# Altium schematic symbol library SCH - MCU - STM32 - ST MICROELECTRONICS STM32MP131FAEX LFBGA289.SchLib: 1 symbol
Pins are listed as number, name and electrical type; pins without a type are passive.

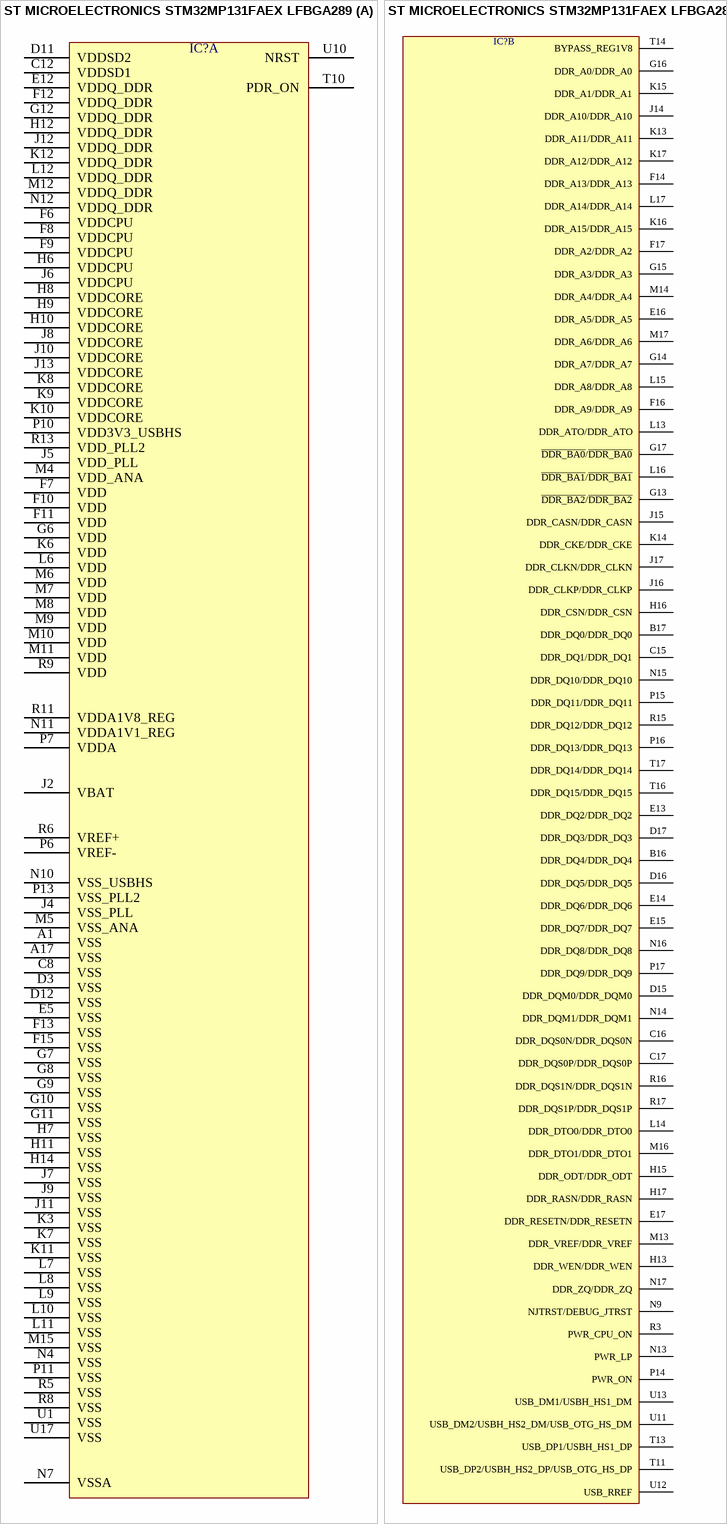
[diagram p0: symbol ST MICROELECTRONICS STM32MP131FAEX LFBGA289]

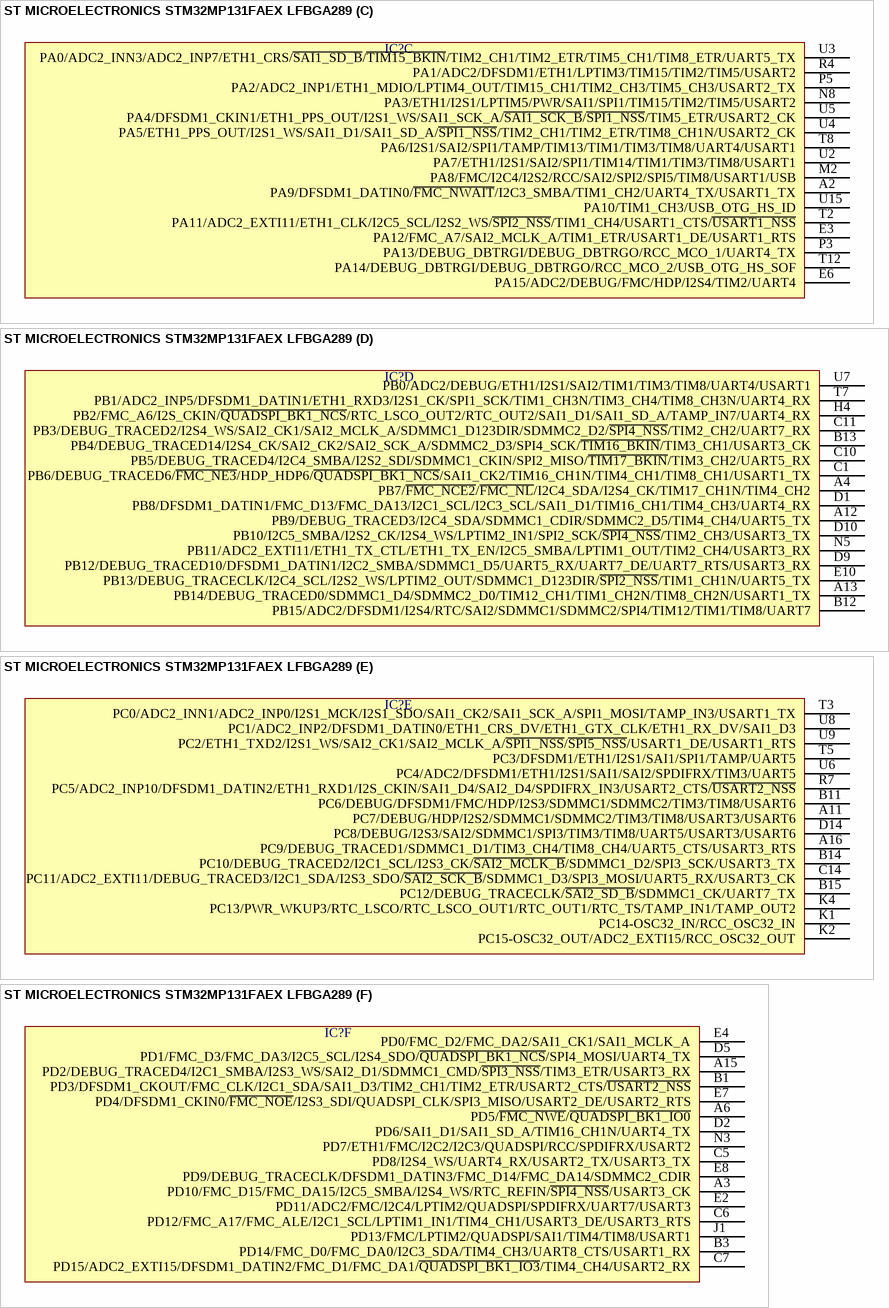
[diagram p1: symbol ST MICROELECTRONICS STM32MP131FAEX LFBGA289]

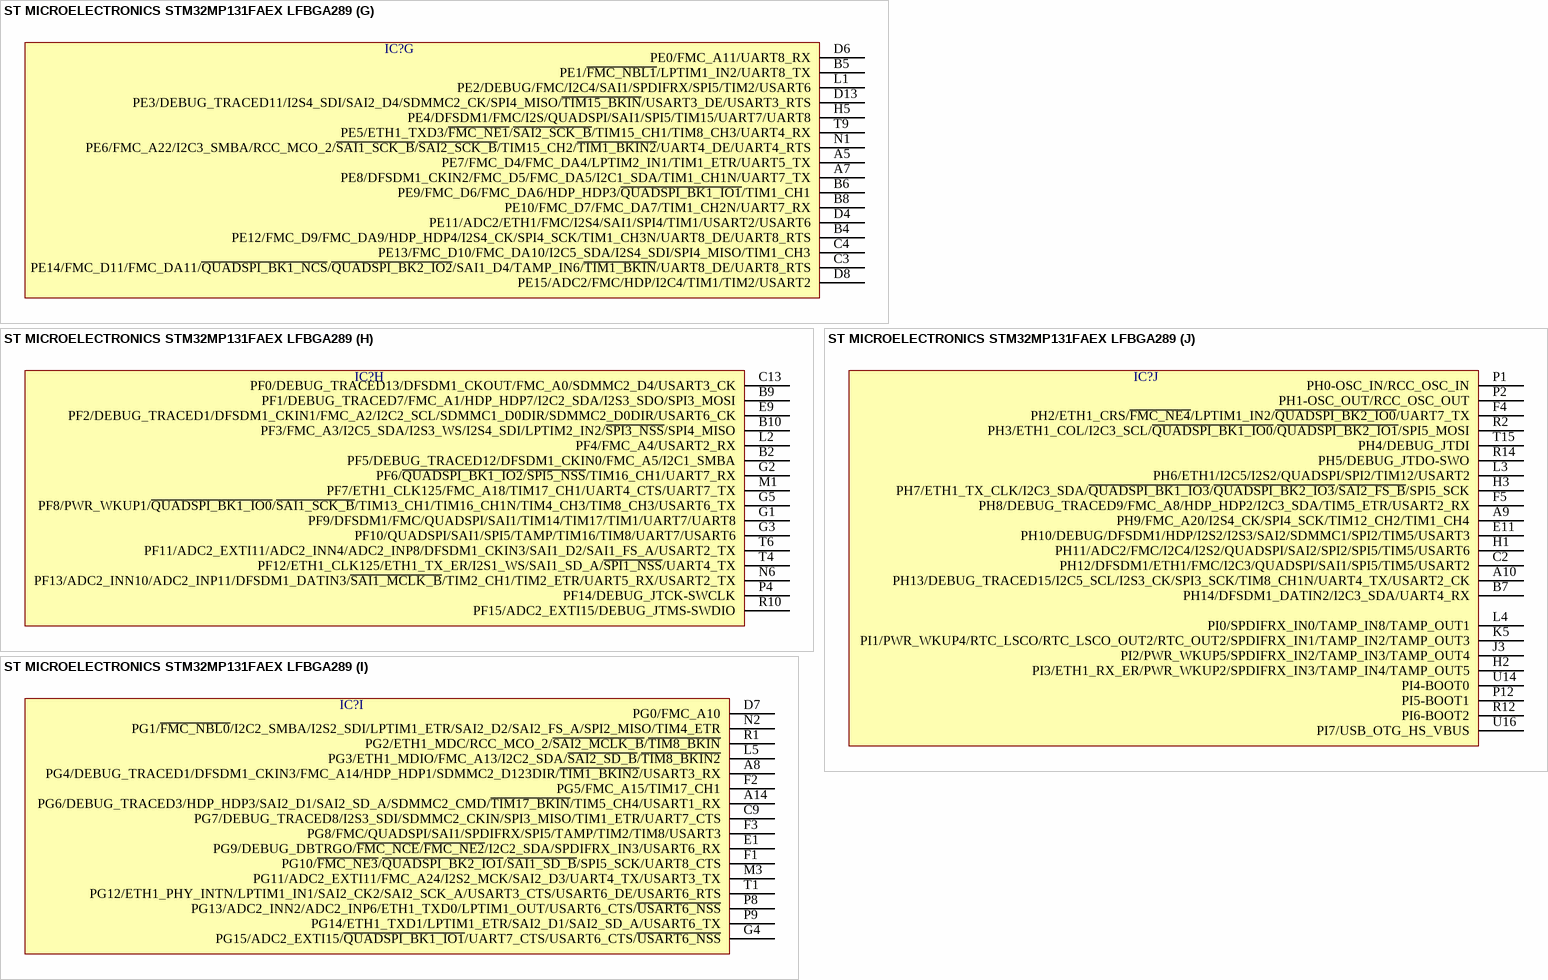
[diagram p2: symbol ST MICROELECTRONICS STM32MP131FAEX LFBGA289]

## ST MICROELECTRONICS STM32MP131FAEX LFBGA289
designator IC?  (value not drawn)
part A pins: A1 VSS, A17 VSS, C8 VSS, C12 VDDSD1, D3 VSS, D11 VDDSD2, D12 VSS, E5 VSS, E12 VDDQ_DDR, F6 VDDCPU, F7 VDD, F8 VDDCPU, F9 VDDCPU, F10 VDD, F11 VDD, F12 VDDQ_DDR, F13 VSS, F15 VSS, G6 VDD, G7 VSS, G8 VSS, G9 VSS, G10 VSS, G11 VSS, G12 VDDQ_DDR, H6 VDDCPU, H7 VSS, H8 VDDCORE, H9 VDDCORE, H10 VDDCORE, H11 VSS, H12 VDDQ_DDR, H14 VSS, J2 VBAT, J4 VSS_PLL, J5 VDD_PLL, J6 VDDCPU, J7 VSS, J8 VDDCORE, J9 VSS, J10 VDDCORE, J11 VSS, J12 VDDQ_DDR, J13 VDDCORE, K3 VSS, K6 VDD, K7 VSS, K8 VDDCORE, K9 VDDCORE, K10 VDDCORE, K11 VSS, K12 VDDQ_DDR, L6 VDD, L7 VSS, L8 VSS, L9 VSS, L10 VSS, L11 VSS, L12 VDDQ_DDR, M4 VDD_ANA, M5 VSS_ANA, M6 VDD, M7 VDD, M8 VDD, M9 VDD, M10 VDD, M11 VDD, M12 VDDQ_DDR, M15 VSS, N4 VSS, N7 VSSA, N10 VSS_USBHS, N11 VDDA1V1_REG, N12 VDDQ_DDR, P6 VREF-, P7 VDDA, P10 VDD3V3_USBHS, P11 VSS, P13 VSS_PLL2, R5 VSS, R6 VREF+, R8 VSS, R9 VDD, R11 VDDA1V8_REG, R13 VDD_PLL2, T10 PDR_ON, U1 VSS, U10 NRST, U17 VSS
part B pins: B16 DDR_DQ4/DDR_DQ4, B17 DDR_DQ0/DDR_DQ0, C15 DDR_DQ1/DDR_DQ1, C16 DDR_DQS0N/DDR_DQS0N, C17 DDR_DQS0P/DDR_DQS0P, D15 DDR_DQM0/DDR_DQM0, D16 DDR_DQ5/DDR_DQ5, D17 DDR_DQ3/DDR_DQ3, E13 DDR_DQ2/DDR_DQ2, E14 DDR_DQ6/DDR_DQ6, E15 DDR_DQ7/DDR_DQ7, E16 DDR_A5/DDR_A5, E17 DDR_RESETN/DDR_RESETN, F14 DDR_A13/DDR_A13, F16 DDR_A9/DDR_A9, F17 DDR_A2/DDR_A2, G13 ~{DDR_BA2}/~{DDR_BA2}, G14 DDR_A7/DDR_A7, G15 DDR_A3/DDR_A3, G16 DDR_A0/DDR_A0, G17 ~{DDR_BA0}/~{DDR_BA0}, H13 DDR_WEN/DDR_WEN, H15 DDR_ODT/DDR_ODT, H16 DDR_CSN/DDR_CSN, H17 DDR_RASN/DDR_RASN, J14 DDR_A10/DDR_A10, J15 DDR_CASN/DDR_CASN, J16 DDR_CLKP/DDR_CLKP, J17 DDR_CLKN/DDR_CLKN, K13 DDR_A11/DDR_A11, K14 DDR_CKE/DDR_CKE, K15 DDR_A1/DDR_A1, K16 DDR_A15/DDR_A15, K17 DDR_A12/DDR_A12, L13 DDR_ATO/DDR_ATO, L14 DDR_DTO0/DDR_DTO0, L15 DDR_A8/DDR_A8, L16 ~{DDR_BA1}/~{DDR_BA1}, L17 DDR_A14/DDR_A14, M13 DDR_VREF/DDR_VREF, M14 DDR_A4/DDR_A4, M16 DDR_DTO1/DDR_DTO1, M17 DDR_A6/DDR_A6, N9 NJTRST/DEBUG_JTRST, N13 PWR_LP, N14 DDR_DQM1/DDR_DQM1, N15 DDR_DQ10/DDR_DQ10, N16 DDR_DQ8/DDR_DQ8, N17 DDR_ZQ/DDR_ZQ, P14 PWR_ON, P15 DDR_DQ11/DDR_DQ11, P16 DDR_DQ13/DDR_DQ13, P17 DDR_DQ9/DDR_DQ9, R3 PWR_CPU_ON, R15 DDR_DQ12/DDR_DQ12, R16 DDR_DQS1N/DDR_DQS1N, R17 DDR_DQS1P/DDR_DQS1P, T11 USB_DP2/USBH_HS2_DP/USB_OTG_HS_DP, T13 USB_DP1/USBH_HS1_DP, T14 BYPASS_REG1V8, T16 DDR_DQ15/DDR_DQ15, T17 DDR_DQ14/DDR_DQ14, U11 USB_DM2/USBH_HS2_DM/USB_OTG_HS_DM, U12 USB_RREF, U13 USB_DM1/USBH_HS1_DM
part C pins: A2 PA9/DFSDM1_DATIN0/~{FMC_NWAIT}/I2C3_SMBA/TIM1_CH2/UART4_TX/USART1_TX, E3 PA12/FMC_A7/SAI2_MCLK_A/TIM1_ETR/USART1_DE/USART1_RTS, E6 PA15/ADC2/DEBUG/FMC/HDP/I2S4/TIM2/UART4, M2 PA8/FMC/I2C4/I2S2/RCC/SAI2/SPI2/SPI5/TIM8/USART1/USB, N8 PA3/ETH1/I2S1/LPTIM5/PWR/SAI1/SPI1/TIM15/TIM2/TIM5/USART2, P3 PA13/DEBUG_DBTRGI/DEBUG_DBTRGO/RCC_MCO_1/UART4_TX, P5 PA2/ADC2_INP1/ETH1_MDIO/LPTIM4_OUT/TIM15_CH1/TIM2_CH3/TIM5_CH3/USART2_TX, R4 PA1/ADC2/DFSDM1/ETH1/LPTIM3/TIM15/TIM2/TIM5/USART2, T2 PA11/ADC2_EXTI11/ETH1_CLK/I2C5_SCL/I2S2_WS/~{SPI2_NSS}/TIM1_CH4/USART1_CTS/~{USART1_NSS}, T8 PA6/I2S1/SAI2/SPI1/TAMP/TIM13/TIM1/TIM3/TIM8/UART4/USART1, T12 PA14/DEBUG_DBTRGI/DEBUG_DBTRGO/RCC_MCO_2/USB_OTG_HS_SOF, U2 PA7/ETH1/I2S1/SAI2/SPI1/TIM14/TIM1/TIM3/TIM8/USART1, U3 PA0/ADC2_INN3/ADC2_INP7/ETH1_CRS/~{SAI1_SD_B}/~{TIM15_BKIN}/TIM2_CH1/TIM2_ETR/TIM5_CH1/TIM8_ETR/UART5_TX, U4 PA5/ETH1_PPS_OUT/I2S1_WS/SAI1_D1/SAI1_SD_A/~{SPI1_NSS}/TIM2_CH1/TIM2_ETR/TIM8_CH1N/USART2_CK, U5 PA4/DFSDM1_CKIN1/ETH1_PPS_OUT/I2S1_WS/SAI1_SCK_A/~{SAI1_SCK_B}/~{SPI1_NSS}/TIM5_ETR/USART2_CK, U15 PA10/TIM1_CH3/USB_OTG_HS_ID
part D pins: A4 PB7/~{FMC_NCE2}/~{FMC_NL}/I2C4_SDA/I2S4_CK/TIM17_CH1N/TIM4_CH2, A12 PB9/DEBUG_TRACED3/I2C4_SDA/SDMMC1_CDIR/SDMMC2_D5/TIM4_CH4/UART5_TX, A13 PB14/DEBUG_TRACED0/SDMMC1_D4/SDMMC2_D0/TIM12_CH1/TIM1_CH2N/TIM8_CH2N/USART1_TX, B12 PB15/ADC2/DFSDM1/I2S4/RTC/SAI2/SDMMC1/SDMMC2/SPI4/TIM12/TIM1/TIM8/UART7, B13 PB4/DEBUG_TRACED14/I2S4_CK/SAI2_CK2/SAI2_SCK_A/SDMMC2_D3/SPI4_SCK/~{TIM16_BKIN}/TIM3_CH1/USART3_CK, C1 PB6/DEBUG_TRACED6/~{FMC_NE3}/HDP_HDP6/~{QUADSPI_BK1_NCS}/SAI1_CK2/TIM16_CH1N/TIM4_CH1/TIM8_CH1/USART1_TX, C10 PB5/DEBUG_TRACED4/I2C4_SMBA/I2S2_SDI/SDMMC1_CKIN/SPI2_MISO/~{TIM17_BKIN}/TIM3_CH2/UART5_RX, C11 PB3/DEBUG_TRACED2/I2S4_WS/SAI2_CK1/SAI2_MCLK_A/SDMMC1_D123DIR/SDMMC2_D2/~{SPI4_NSS}/TIM2_CH2/UART7_RX, D1 PB8/DFSDM1_DATIN1/FMC_D13/FMC_DA13/I2C1_SCL/I2C3_SCL/SAI1_D1/TIM16_CH1/TIM4_CH3/UART4_RX, D9 PB12/DEBUG_TRACED10/DFSDM1_DATIN1/I2C2_SMBA/SDMMC1_D5/UART5_RX/UART7_DE/UART7_RTS/USART3_RX, D10 PB10/I2C5_SMBA/I2S2_CK/I2S4_WS/LPTIM2_IN1/SPI2_SCK/~{SPI4_NSS}/TIM2_CH3/USART3_TX, E10 PB13/DEBUG_TRACECLK/I2C4_SCL/I2S2_WS/LPTIM2_OUT/SDMMC1_D123DIR/~{SPI2_NSS}/TIM1_CH1N/UART5_TX, H4 PB2/FMC_A6/I2S_CKIN/~{QUADSPI_BK1_NCS}/RTC_LSCO_OUT2/RTC_OUT2/SAI1_D1/SAI1_SD_A/TAMP_IN7/UART4_RX, N5 PB11/ADC2_EXTI11/ETH1_TX_CTL/ETH1_TX_EN/I2C5_SMBA/LPTIM1_OUT/TIM2_CH4/USART3_RX, T7 PB1/ADC2_INP5/DFSDM1_DATIN1/ETH1_RXD3/I2S1_CK/SPI1_SCK/TIM1_CH3N/TIM3_CH4/TIM8_CH3N/UART4_RX, U7 PB0/ADC2/DEBUG/ETH1/I2S1/SAI2/TIM1/TIM3/TIM8/UART4/USART1
part E pins: A11 PC7/DEBUG/HDP/I2S2/SDMMC1/SDMMC2/TIM3/TIM8/USART3/USART6, A16 PC9/DEBUG_TRACED1/SDMMC1_D1/TIM3_CH4/TIM8_CH4/UART5_CTS/USART3_RTS, B11 PC6/DEBUG/DFSDM1/FMC/HDP/I2S3/SDMMC1/SDMMC2/TIM3/TIM8/USART6, B14 PC10/DEBUG_TRACED2/I2C1_SCL/I2S3_CK/~{SAI2_MCLK_B}/SDMMC1_D2/SPI3_SCK/USART3_TX, B15 PC12/DEBUG_TRACECLK/~{SAI2_SD_B}/SDMMC1_CK/UART7_TX, C14 PC11/ADC2_EXTI11/DEBUG_TRACED3/I2C1_SDA/I2S3_SDO/~{SAI2_SCK_B}/SDMMC1_D3/SPI3_MOSI/UART5_RX/USART3_CK, D14 PC8/DEBUG/I2S3/SAI2/SDMMC1/SPI3/TIM3/TIM8/UART5/USART3/USART6, K1 PC14-OSC32_IN/RCC_OSC32_IN, K2 PC15-OSC32_OUT/ADC2_EXTI15/RCC_OSC32_OUT, K4 PC13/PWR_WKUP3/RTC_LSCO/RTC_LSCO_OUT1/RTC_OUT1/RTC_TS/TAMP_IN1/TAMP_OUT2, R7 PC5/ADC2_INP10/DFSDM1_DATIN2/ETH1_RXD1/I2S_CKIN/SAI1_D4/SAI2_D4/SPDIFRX_IN3/USART2_CTS/~{USART2_NSS}, T3 PC0/ADC2_INN1/ADC2_INP0/I2S1_MCK/I2S1_SDO/SAI1_CK2/SAI1_SCK_A/SPI1_MOSI/TAMP_IN3/USART1_TX, T5 PC3/DFSDM1/ETH1/I2S1/SAI1/SPI1/TAMP/UART5, U6 PC4/ADC2/DFSDM1/ETH1/I2S1/SAI1/SAI2/SPDIFRX/TIM3/UART5, U8 PC1/ADC2_INP2/DFSDM1_DATIN0/ETH1_CRS_DV/ETH1_GTX_CLK/ETH1_RX_DV/SAI1_D3, U9 PC2/ETH1_TXD2/I2S1_WS/SAI2_CK1/SAI2_MCLK_A/~{SPI1_NSS}/~{SPI5_NSS}/USART1_DE/USART1_RTS
part F pins: A3 PD10/FMC_D15/FMC_DA15/I2C5_SMBA/I2S4_WS/RTC_REFIN/~{SPI4_NSS}/USART3_CK, A6 PD5/~{FMC_NWE}/~{QUADSPI_BK1_IO0}, A15 PD2/DEBUG_TRACED4/I2C1_SMBA/I2S3_WS/SAI2_D1/SDMMC1_CMD/~{SPI3_NSS}/TIM3_ETR/USART3_RX, B1 PD3/DFSDM1_CKOUT/FMC_CLK/I2C1_SDA/SAI1_D3/TIM2_CH1/TIM2_ETR/USART2_CTS/~{USART2_NSS}, B3 PD14/FMC_D0/FMC_DA0/I2C3_SDA/TIM4_CH3/UART8_CTS/USART1_RX, C5 PD8/I2S4_WS/UART4_RX/USART2_TX/USART3_TX, C6 PD12/FMC_A17/FMC_ALE/I2C1_SCL/LPTIM1_IN1/TIM4_CH1/USART3_DE/USART3_RTS, C7 PD15/ADC2_EXTI15/DFSDM1_DATIN2/FMC_D1/FMC_DA1/~{QUADSPI_BK1_IO3}/TIM4_CH4/USART2_RX, D2 PD6/SAI1_D1/SAI1_SD_A/TIM16_CH1N/UART4_TX, D5 PD1/FMC_D3/FMC_DA3/I2C5_SCL/I2S4_SDO/~{QUADSPI_BK1_NCS}/SPI4_MOSI/UART4_TX, E2 PD11/ADC2/FMC/I2C4/LPTIM2/QUADSPI/SPDIFRX/UART7/USART3, E4 PD0/FMC_D2/FMC_DA2/SAI1_CK1/SAI1_MCLK_A, E7 PD4/DFSDM1_CKIN0/~{FMC_NOE}/I2S3_SDI/QUADSPI_CLK/SPI3_MISO/USART2_DE/USART2_RTS, E8 PD9/DEBUG_TRACECLK/DFSDM1_DATIN3/FMC_D14/FMC_DA14/SDMMC2_CDIR, J1 PD13/FMC/LPTIM2/QUADSPI/SAI1/TIM4/TIM8/USART1, N3 PD7/ETH1/FMC/I2C2/I2C3/QUADSPI/RCC/SPDIFRX/USART2
part G pins: A5 PE7/FMC_D4/FMC_DA4/LPTIM2_IN1/TIM1_ETR/UART5_TX, A7 PE8/DFSDM1_CKIN2/FMC_D5/FMC_DA5/I2C1_SDA/TIM1_CH1N/UART7_TX, B4 PE12/FMC_D9/FMC_DA9/HDP_HDP4/I2S4_CK/SPI4_SCK/TIM1_CH3N/UART8_DE/UART8_RTS, B5 PE1/~{FMC_NBL1}/LPTIM1_IN2/UART8_TX, B6 PE9/FMC_D6/FMC_DA6/HDP_HDP3/~{QUADSPI_BK1_IO1}/TIM1_CH1, B8 PE10/FMC_D7/FMC_DA7/TIM1_CH2N/UART7_RX, C3 PE14/FMC_D11/FMC_DA11/~{QUADSPI_BK1_NCS}/~{QUADSPI_BK2_IO2}/SAI1_D4/TAMP_IN6/~{TIM1_BKIN}/UART8_DE/UART8_RTS, C4 PE13/FMC_D10/FMC_DA10/I2C5_SDA/I2S4_SDI/SPI4_MISO/TIM1_CH3, D4 PE11/ADC2/ETH1/FMC/I2S4/SAI1/SPI4/TIM1/USART2/USART6, D6 PE0/FMC_A11/UART8_RX, D8 PE15/ADC2/FMC/HDP/I2C4/TIM1/TIM2/USART2, D13 PE3/DEBUG_TRACED11/I2S4_SDI/SAI2_D4/SDMMC2_CK/SPI4_MISO/~{TIM15_BKIN}/USART3_DE/USART3_RTS, H5 PE4/DFSDM1/FMC/I2S/QUADSPI/SAI1/SPI5/TIM15/UART7/UART8, L1 PE2/DEBUG/FMC/I2C4/SAI1/SPDIFRX/SPI5/TIM2/USART6, N1 PE6/FMC_A22/I2C3_SMBA/RCC_MCO_2/~{SAI1_SCK_B}/~{SAI2_SCK_B}/TIM15_CH2/~{TIM1_BKIN2}/UART4_DE/UART4_RTS, T9 PE5/ETH1_TXD3/~{FMC_NE1}/~{SAI2_SCK_B}/TIM15_CH1/TIM8_CH3/UART4_RX
part H pins: B2 PF5/DEBUG_TRACED12/DFSDM1_CKIN0/FMC_A5/I2C1_SMBA, B9 PF1/DEBUG_TRACED7/FMC_A1/HDP_HDP7/I2C2_SDA/I2S3_SDO/SPI3_MOSI, B10 PF3/FMC_A3/I2C5_SDA/I2S3_WS/I2S4_SDI/LPTIM2_IN2/~{SPI3_NSS}/SPI4_MISO, C13 PF0/DEBUG_TRACED13/DFSDM1_CKOUT/FMC_A0/SDMMC2_D4/USART3_CK, E9 PF2/DEBUG_TRACED1/DFSDM1_CKIN1/FMC_A2/I2C2_SCL/SDMMC1_D0DIR/SDMMC2_D0DIR/USART6_CK, G1 PF9/DFSDM1/FMC/QUADSPI/SAI1/TIM14/TIM17/TIM1/UART7/UART8, G2 PF6/~{QUADSPI_BK1_IO2}/~{SPI5_NSS}/TIM16_CH1/UART7_RX, G3 PF10/QUADSPI/SAI1/SPI5/TAMP/TIM16/TIM8/UART7/USART6, G5 PF8/PWR_WKUP1/~{QUADSPI_BK1_IO0}/~{SAI1_SCK_B}/TIM13_CH1/TIM16_CH1N/TIM4_CH3/TIM8_CH3/USART6_TX, L2 PF4/FMC_A4/USART2_RX, M1 PF7/ETH1_CLK125/FMC_A18/TIM17_CH1/UART4_CTS/UART7_TX, N6 PF13/ADC2_INN10/ADC2_INP11/DFSDM1_DATIN3/~{SAI1_MCLK_B}/TIM2_CH1/TIM2_ETR/UART5_RX/USART2_TX, P4 PF14/DEBUG_JTCK-SWCLK, R10 PF15/ADC2_EXTI15/DEBUG_JTMS-SWDIO, T4 PF12/ETH1_CLK125/ETH1_TX_ER/I2S1_WS/SAI1_SD_A/~{SPI1_NSS}/UART4_TX, T6 PF11/ADC2_EXTI11/ADC2_INN4/ADC2_INP8/DFSDM1_CKIN3/SAI1_D2/SAI1_FS_A/USART2_TX
part I pins: A8 PG4/DEBUG_TRACED1/DFSDM1_CKIN3/FMC_A14/HDP_HDP1/SDMMC2_D123DIR/~{TIM1_BKIN2}/USART3_RX, A14 PG6/DEBUG_TRACED3/HDP_HDP3/SAI2_D1/SAI2_SD_A/SDMMC2_CMD/~{TIM17_BKIN}/TIM5_CH4/USART1_RX, C9 PG7/DEBUG_TRACED8/I2S3_SDI/SDMMC2_CKIN/SPI3_MISO/TIM1_ETR/UART7_CTS, D7 PG0/FMC_A10, E1 PG9/DEBUG_DBTRGO/~{FMC_NCE}/~{FMC_NE2}/I2C2_SDA/SPDIFRX_IN3/USART6_RX, F1 PG10/~{FMC_NE3}/~{QUADSPI_BK2_IO1}/~{SAI1_SD_B}/SPI5_SCK/UART8_CTS, F2 PG5/FMC_A15/TIM17_CH1, F3 PG8/FMC/QUADSPI/SAI1/SPDIFRX/SPI5/TAMP/TIM2/TIM8/USART3, G4 PG15/ADC2_EXTI15/~{QUADSPI_BK1_IO1}/UART7_CTS/USART6_CTS/~{USART6_NSS}, L5 PG3/ETH1_MDIO/FMC_A13/I2C2_SDA/~{SAI2_SD_B}/~{TIM8_BKIN2}, M3 PG11/ADC2_EXTI11/FMC_A24/I2S2_MCK/SAI2_D3/UART4_TX/USART3_TX, N2 PG1/~{FMC_NBL0}/I2C2_SMBA/I2S2_SDI/LPTIM1_ETR/SAI2_D2/SAI2_FS_A/SPI2_MISO/TIM4_ETR, P8 PG13/ADC2_INN2/ADC2_INP6/ETH1_TXD0/LPTIM1_OUT/USART6_CTS/~{USART6_NSS}, P9 PG14/ETH1_TXD1/LPTIM1_ETR/SAI2_D1/SAI2_SD_A/USART6_TX, R1 PG2/ETH1_MDC/RCC_MCO_2/~{SAI2_MCLK_B}/~{TIM8_BKIN}, T1 PG12/ETH1_PHY_INTN/LPTIM1_IN1/SAI2_CK2/SAI2_SCK_A/USART3_CTS/USART6_DE/USART6_RTS
part J pins: A9 PH9/FMC_A20/I2S4_CK/SPI4_SCK/TIM12_CH2/TIM1_CH4, A10 PH13/DEBUG_TRACED15/I2C5_SCL/I2S3_CK/SPI3_SCK/TIM8_CH1N/UART4_TX/USART2_CK, B7 PH14/DFSDM1_DATIN2/I2C3_SDA/UART4_RX, C2 PH12/DFSDM1/ETH1/FMC/I2C3/QUADSPI/SAI1/SPI5/TIM5/USART2, E11 PH10/DEBUG/DFSDM1/HDP/I2S2/I2S3/SAI2/SDMMC1/SPI2/TIM5/USART3, F4 PH2/ETH1_CRS/~{FMC_NE4}/LPTIM1_IN2/~{QUADSPI_BK2_IO0}/UART7_TX, F5 PH8/DEBUG_TRACED9/FMC_A8/HDP_HDP2/I2C3_SDA/TIM5_ETR/USART2_RX, H1 PH11/ADC2/FMC/I2C4/I2S2/QUADSPI/SAI2/SPI2/SPI5/TIM5/USART6, H2 PI3/ETH1_RX_ER/PWR_WKUP2/SPDIFRX_IN3/TAMP_IN4/TAMP_OUT5, H3 PH7/ETH1_TX_CLK/I2C3_SDA/~{QUADSPI_BK1_IO3}/~{QUADSPI_BK2_IO3}/~{SAI2_FS_B}/SPI5_SCK, J3 PI2/PWR_WKUP5/SPDIFRX_IN2/TAMP_IN3/TAMP_OUT4, K5 PI1/PWR_WKUP4/RTC_LSCO/RTC_LSCO_OUT2/RTC_OUT2/SPDIFRX_IN1/TAMP_IN2/TAMP_OUT3, L3 PH6/ETH1/I2C5/I2S2/QUADSPI/SPI2/TIM12/USART2, L4 PI0/SPDIFRX_IN0/TAMP_IN8/TAMP_OUT1, P1 PH0-OSC_IN/RCC_OSC_IN, P2 PH1-OSC_OUT/RCC_OSC_OUT, P12 PI5-BOOT1, R2 PH3/ETH1_COL/I2C3_SCL/~{QUADSPI_BK1_IO0}/~{QUADSPI_BK2_IO1}/SPI5_MOSI, R12 PI6-BOOT2, R14 PH5/DEBUG_JTDO-SWO, T15 PH4/DEBUG_JTDI, U14 PI4-BOOT0, U16 PI7/USB_OTG_HS_VBUS